# EAGLE library part TYR_ATMEGA32U4 (library Tyr)
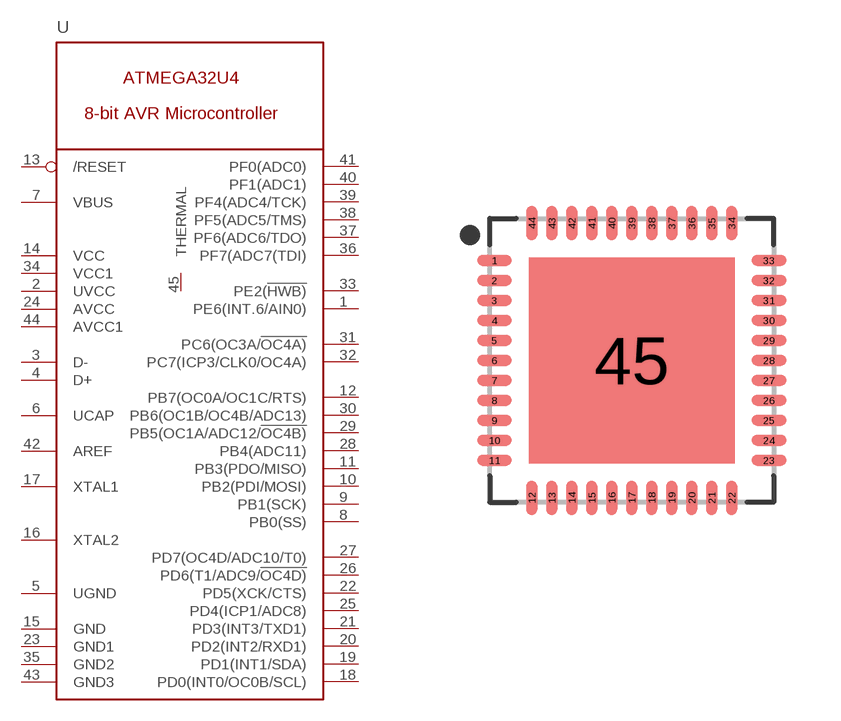
[diagram p2: symbol with the pads of TYR_QFN44-7X7; footprint TYR_QFN44-7X7]

Designator prefix U

## TYR_ATMEGA32U4  [TYR_QFN44-7X7]
1  PE6(INT.6/AIN0)
2  UVCC
3  D-
4  D+
5  UGND
6  UCAP
7  VBUS
8  PB0(SS)
9  PB1(SCK)
10  PB2(PDI/MOSI)
11  PB3(PDO/MISO)
12  PB7(OC0A/OC1C/RTS)
13  /RESET
14  VCC
15  GND
16  XTAL2
17  XTAL1
18  PD0(INT0/OC0B/SCL)
19  PD1(INT1/SDA)
20  PD2(INT2/RXD1)
21  PD3(INT3/TXD1)
22  PD5(XCK/CTS)
23  GND1
24  AVCC
25  PD4(ICP1/ADC8)
26  PD6(T1/ADC9/!OC4D)
27  PD7(OC4D/ADC10/T0)
28  PB4(ADC11)
29  PB5(OC1A/ADC12/!OC4B)
30  PB6(OC1B/OC4B/ADC13)
31  PC6(OC3A/!OC4A)
32  PC7(ICP3/CLK0/OC4A)
33  PE2(!HWB)
34  VCC1
35  GND2
36  PF7(ADC7(TDI)
37  PF6(ADC6/TDO)
38  PF5(ADC5/TMS)
39  PF4(ADC4/TCK)
40  PF1(ADC1)
41  PF0(ADC0)
42  AREF
43  GND3
44  AVCC1
45  THERMAL

## Footprint TYR_QFN44-7X7 (pad centres in mm)
44-QFN, 0.50 mm pitch, 7.00 X 7.00 X 0.80 mm body, 5.15 X 5.15 mm thermal pad 44-pin QFN package with 0.50 mm pitch with body size 7.00 X 7.00 X 0.80 mm and thermal pad size 5.15 X 5.15 mm
smd 0.86 x 0.27: 1 -3.435,2.5; 2 -3.435,2; 3 -3.435,1.5; 4 -3.435,1; 5 -3.435,0.5; 6 -3.435,0; 7 -3.435,-0.5; 8 -3.435,-1; 9 -3.435,-1.5; 10 -3.435,-2; 11 -3.435,-2.5; 23 3.435,-2.5; 24 3.435,-2; 25 3.435,-1.5; 26 3.435,-1; 27 3.435,-0.5; 28 3.435,0; 29 3.435,0.5; 30 3.435,1; 31 3.435,1.5; 32 3.435,2; 33 3.435,2.5
smd 0.27 x 0.86: 12 -2.5,-3.435; 13 -2,-3.435; 14 -1.5,-3.435; 15 -1,-3.435; 16 -0.5,-3.435; 17 0,-3.435; 18 0.5,-3.435; 19 1,-3.435; 20 1.5,-3.435; 21 2,-3.435; 22 2.5,-3.435; 34 2.5,3.435; 35 2,3.435; 36 1.5,3.435; 37 1,3.435; 38 0.5,3.435; 39 0,3.435; 40 -0.5,3.435; 41 -1,3.435; 42 -1.5,3.435; 43 -2,3.435; 44 -2.5,3.435
smd 5.15 x 5.15: 45 0,0